# Altium schematic symbol library MicroSD.SchLib: 1 symbol
Pins are listed as number, name and electrical type; pins without a type are passive.

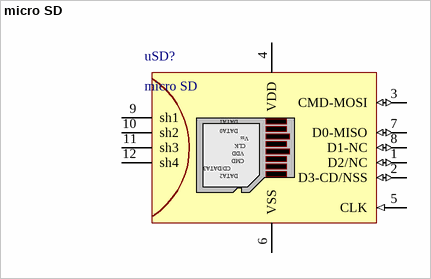
[diagram p0: symbol micro SD]

## micro SD
designator uSD?
footprint MICRO_SD_SOCKET
pins: 1 D2/NC (io) "Data Bit 2", 2 D3-CD/NSS (io) "Card Detect/Data Bit 3", 3 CMD-MOSI (io) "Command Line", 4 VDD (power) "Supply Voltage 2.7V/3.3V", 5 CLK (in) "Clock", 6 VSS (power) "Ground", 7 D0-MISO (io) "Data Bit 0", 8 D1-NC (io) "Data Bit 1", 9 sh1 "Data Bit 1", 10 sh2, 11 sh3, 12 sh4
text: DATA1; DATA0; Vss; CMD; CD/DATA3; DATA2